# Altium integrated library TI Power Management Linear Regulator Dual Channel LDO.IntLib: 299 symbols (part 13 of 15)
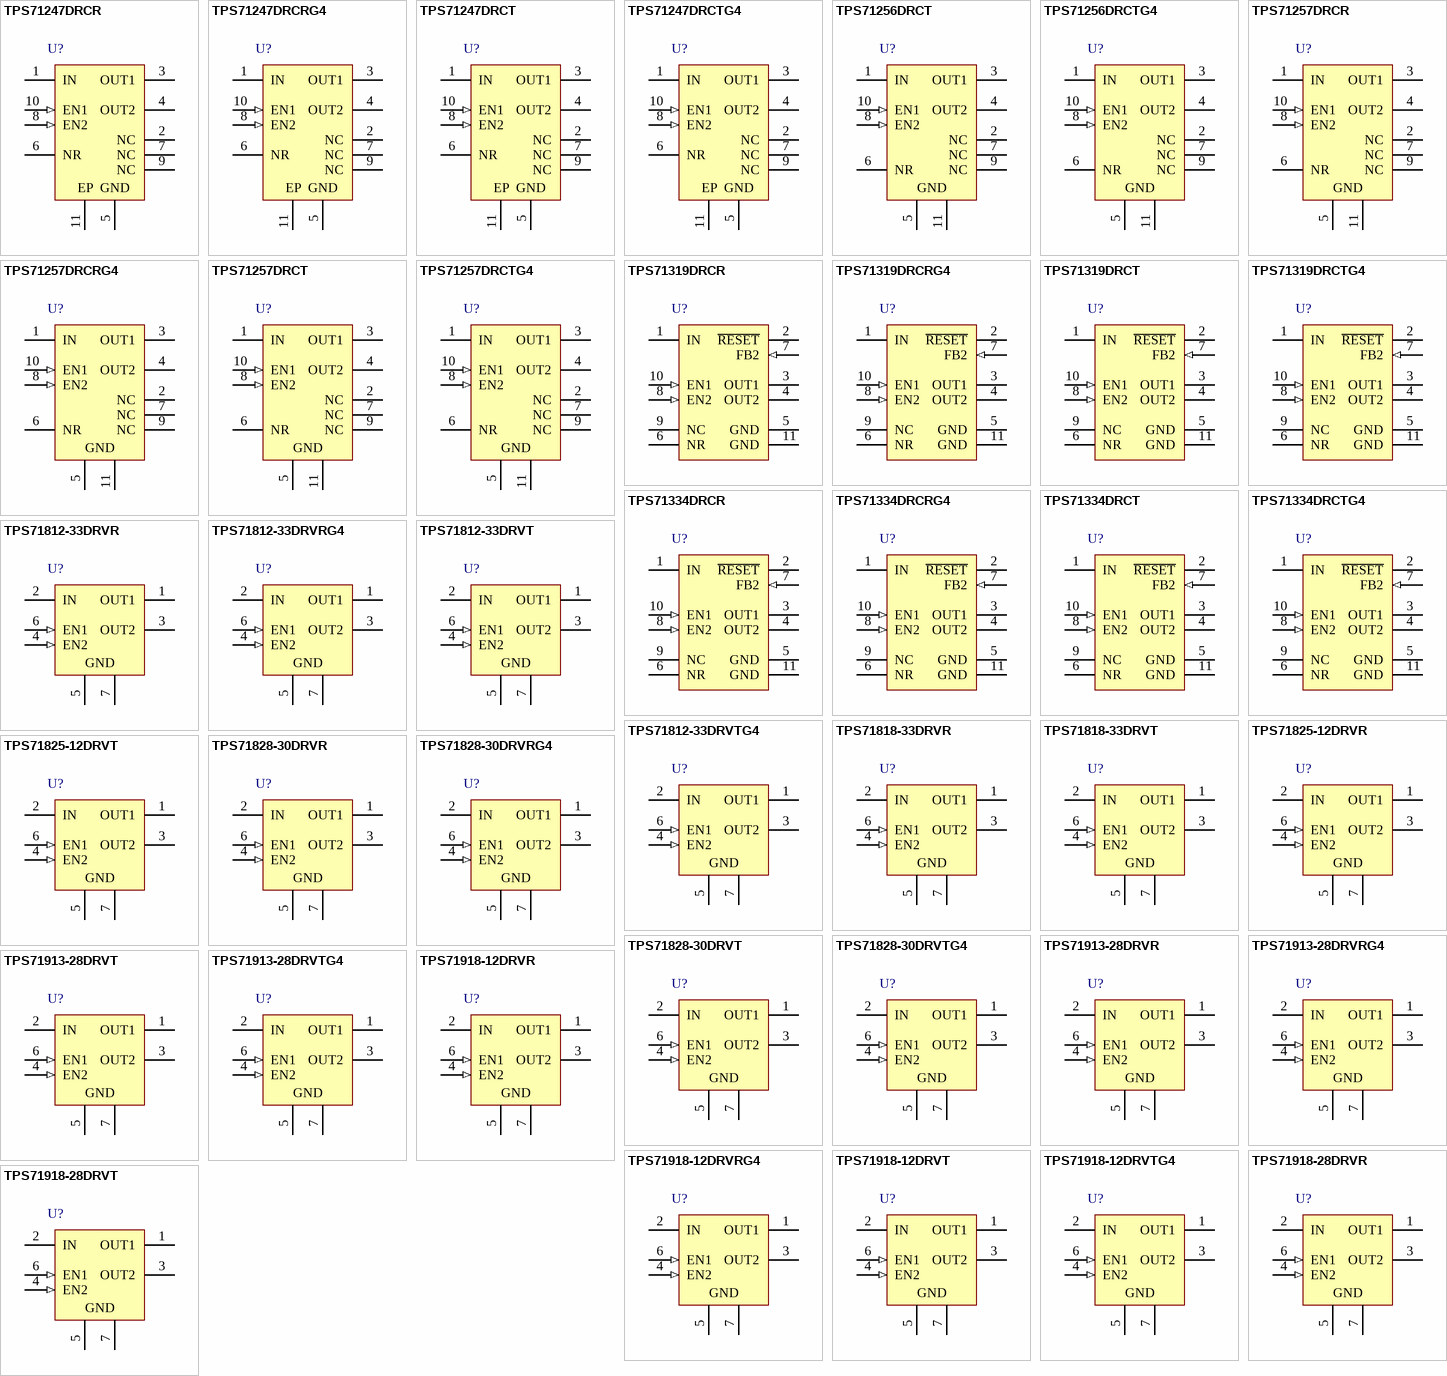
[diagram p23: symbols TPS71247DRCR to TPS71918-28DRVT]

## TPS71319DRCT
designator U?
Dual Output High PSRR LDO, 200 mA, Fixed 1.8 V Output, 2.7 to 5.5 V Input, with Integrated SVS, 10-pin SON (DRC), -40 to 125 degC, Green (RoHS & no Sb/Br); Manufacturer: Texas Instruments; PartNumber: TPS71319DRCT; Fixed Output Options(V): 1.8; Iout(Max)(A): 0.2; Iq(Typ)(mA): 0.3; SubFamily: Dual Channel LDO; Vdo(Typ)(mV): 125; Vin(Max)(V): 5.5; Vin(Min)(V): 2.7; Vout2(Min)(V): 1.5; DatasheetVersion: SBVS055A; PackageVersion: 4204102-3/L; PackageReference: DRC10-2400X1650TP; PackageDescription: 10-Pin Plastic Small Outline, Body 3 x 3 mm, Pitch 0.5 mm; Supplier 1: Digi-Key; Supplier Part Number 1: 296-17739-2-ND; Supplier 2: Digi-Key; Supplier Part Number 2: 296-17739-1-ND; Supplier 3: Digi-Key; Supplier Part Number 3: 296-17739-6-ND; Supplier 4: Newark; Supplier Part Number 4: 08K4968; Supplier 5: Mouser; Supplier Part Number 5: 595-TPS71319DRCT; Eco-Plan: Green (RoHS & no Sb/Br); Iout2(A): 0.2; Vout(Max)(V): 1.8; Vout(Min)(V): 1.8; Vout2(Max)(V): 5.5; Mounting Technology: Surface Mount; ComponentLink1Description: Manufacturer URL; ComponentLink1URL: http://www.ti.com/; ComponentLink2Description: Datasheet; ComponentLink2URL: http://www.ti.com/general/docs/lit/getliterature.tsp?genericPartNumber=TPS71319&fileType=pdf; ComponentLink3Description: Package Specification; ComponentLink3URL: http://www.ti.com/litv/pdf/mpds117k
footprint TI-DRC10-2400X1650TP_V (SON, 10-Leads, Body 3x3mm, Pitch 0.5mm, Thermal Pad 3x1.65mm)
pins: 1 IN (power) "Unregulated input supply. A 0.1 uF capacitor should be connected from IN to GND.", 2 ~{RESET} (oc) "Open-drain reset ouput; monitors OUT2.A 10 k ohm to 1Mohm pull-up resistor is suitable for most applications.The open-drain R\E\S\E\T\  pull-up voltage should not exceed VDD + 0.3 V", 3 OUT1 (power) "Output of the regulator. A small 2.2 uF ceramic capacitor is required from this pin to ground to assure stability.", 4 OUT2 (power) "Same as OUT1 but for LDO2.", 5 GND (power) "Ground", 6 NR "Noise reduction pin; connect an external bypass capacitor to reduce LDO output noise.", 7 FB2 (in) "Feedback for CH2 adjustable version;", 8 EN2 (in) "Same as EN1 but controls LDO2.", 9 NC "No connection.", 10 EN1 (in) "Driving the enable pin (EN) high turns on LDO1.Driving this pin low puts LDO1 into shutdown mode,reducing operating current. The enable pin should be connected to IN if not used.", 11 GND (power) "Ground"

## TPS71319DRCTG4
designator U?
Dual Output High PSRR LDO, 200 mA, Fixed 1.8 V Output, 2.7 to 5.5 V Input, with Integrated SVS, 10-pin SON (DRC), -40 to 125 degC, Green (RoHS & no Sb/Br); Manufacturer: Texas Instruments; PartNumber: TPS71319DRCTG4; Fixed Output Options(V): 1.8; Iout(Max)(A): 0.2; Iq(Typ)(mA): 0.3; SubFamily: Dual Channel LDO; Vdo(Typ)(mV): 125; Vin(Max)(V): 5.5; Vin(Min)(V): 2.7; Vout2(Min)(V): 1.5; DatasheetVersion: SBVS055A; PackageVersion: 4204102-3/L; PackageReference: DRC10-2400X1650TP; PackageDescription: 10-Pin Plastic Small Outline, Body 3 x 3 mm, Pitch 0.5 mm; Supplier 1: Digi-Key; Supplier Part Number 1: TPS71319DRCTG4-ND; Supplier 2: Newark; Supplier Part Number 2: 24K6075; Supplier 3: Mouser; Supplier Part Number 3: 595-TPS71319DRCTG4; Eco-Plan: Green (RoHS & no Sb/Br); Iout2(A): 0.2; Vout(Max)(V): 1.8; Vout(Min)(V): 1.8; Vout2(Max)(V): 5.5; Mounting Technology: Surface Mount; ComponentLink1Description: Manufacturer URL; ComponentLink1URL: http://www.ti.com/; ComponentLink2Description: Datasheet; ComponentLink2URL: http://www.ti.com/general/docs/lit/getliterature.tsp?genericPartNumber=TPS71319&fileType=pdf; ComponentLink3Description: Package Specification; ComponentLink3URL: http://www.ti.com/litv/pdf/mpds117k
footprint TI-DRC10-2400X1650TP_V (SON, 10-Leads, Body 3x3mm, Pitch 0.5mm, Thermal Pad 3x1.65mm)
pins: 1 IN (power) "Unregulated input supply. A 0.1 uF capacitor should be connected from IN to GND.", 2 ~{RESET} (oc) "Open-drain reset ouput; monitors OUT2.A 10 k ohm to 1Mohm pull-up resistor is suitable for most applications.The open-drain R\E\S\E\T\  pull-up voltage should not exceed VDD + 0.3 V", 3 OUT1 (power) "Output of the regulator. A small 2.2 uF ceramic capacitor is required from this pin to ground to assure stability.", 4 OUT2 (power) "Same as OUT1 but for LDO2.", 5 GND (power) "Ground", 6 NR "Noise reduction pin; connect an external bypass capacitor to reduce LDO output noise.", 7 FB2 (in) "Feedback for CH2 adjustable version;", 8 EN2 (in) "Same as EN1 but controls LDO2.", 9 NC "No connection.", 10 EN1 (in) "Driving the enable pin (EN) high turns on LDO1.Driving this pin low puts LDO1 into shutdown mode,reducing operating current. The enable pin should be connected to IN if not used.", 11 GND (power) "Ground"

## TPS71334DRCR
designator U?
Dual Output High PSRR LDO, 200 mA, Fixed 1.8 V Output, 2.7 to 5.5 V Input, with Integrated SVS, 10-pin SON (DRC), -40 to 125 degC, Green (RoHS & no Sb/Br); Manufacturer: Texas Instruments; PartNumber: TPS71334DRCR; Fixed Output Options(V): 1.8; Iout(Max)(A): 0.2; Iq(Typ)(mA): 0.3; SubFamily: Dual Channel LDO; Vdo(Typ)(mV): 125; Vin(Max)(V): 5.5; Vin(Min)(V): 2.7; Vout(Max)(V): 3.3; Vout2(Min)(V): 1.5; DatasheetVersion: SBVS055A; PackageVersion: 4204102-3/L; PackageReference: DRC10-2400X1650TP; PackageDescription: 10-Pin Plastic Small Outline, Body 3 x 3 mm, Pitch 0.5 mm; Supplier 1: Digi-Key; Supplier Part Number 1: TPS71334DRCR-ND; Supplier 2: Mouser; Supplier Part Number 2: 595-TPS71334DRCR; Eco-Plan: Green (RoHS & no Sb/Br); Iout2(A): 0.2; Vout(Min)(V): 3.3; Vout2(Max)(V): 5.5; Mounting Technology: Surface Mount; ComponentLink1Description: Manufacturer URL; ComponentLink1URL: http://www.ti.com/; ComponentLink2Description: Datasheet; ComponentLink2URL: http://www.ti.com/general/docs/lit/getliterature.tsp?genericPartNumber=TPS71334&fileType=pdf; ComponentLink3Description: Package Specification; ComponentLink3URL: http://www.ti.com/litv/pdf/mpds117k
footprint TI-DRC10-2400X1650TP_V (SON, 10-Leads, Body 3x3mm, Pitch 0.5mm, Thermal Pad 3x1.65mm)
pins: 1 IN (power) "Unregulated input supply. A 0.1 uF capacitor should be connected from IN to GND.", 2 ~{RESET} (oc) "Open-drain reset ouput; monitors OUT2.A 10 k ohm to 1Mohm pull-up resistor is suitable for most applications.The open-drain R\E\S\E\T\  pull-up voltage should not exceed VDD + 0.3 V", 3 OUT1 (power) "Output of the regulator. A small 2.2 uF ceramic capacitor is required from this pin to ground to assure stability.", 4 OUT2 (power) "Same as OUT1 but for LDO2.", 5 GND (power) "Ground", 6 NR "Noise reduction pin; connect an external bypass capacitor to reduce LDO output noise.", 7 FB2 (in) "Feedback for CH2 adjustable version;", 8 EN2 (in) "Same as EN1 but controls LDO2.", 9 NC "No connection.", 10 EN1 (in) "Driving the enable pin (EN) high turns on LDO1.Driving this pin low puts LDO1 into shutdown mode,reducing operating current. The enable pin should be connected to IN if not used.", 11 GND (power) "Ground"

## TPS71334DRCRG4
designator U?
Dual Output High PSRR LDO, 200 mA, Fixed 1.8 V Output, 2.7 to 5.5 V Input, with Integrated SVS, 10-pin SON (DRC), -40 to 125 degC, Green (RoHS & no Sb/Br); Manufacturer: Texas Instruments; PartNumber: TPS71334DRCRG4; Fixed Output Options(V): 1.8; Iout(Max)(A): 0.2; Iq(Typ)(mA): 0.3; SubFamily: Dual Channel LDO; Vdo(Typ)(mV): 125; Vin(Max)(V): 5.5; Vin(Min)(V): 2.7; Vout(Max)(V): 3.3; Vout2(Min)(V): 1.5; DatasheetVersion: SBVS055A; PackageVersion: 4204102-3/L; PackageReference: DRC10-2400X1650TP; PackageDescription: 10-Pin Plastic Small Outline, Body 3 x 3 mm, Pitch 0.5 mm; Supplier 1: Digi-Key; Supplier Part Number 1: TPS71334DRCRG4-ND; Supplier 2: Mouser; Supplier Part Number 2: 595-TPS71334DRCRG4; Eco-Plan: Green (RoHS & no Sb/Br); Iout2(A): 0.2; Vout(Min)(V): 3.3; Vout2(Max)(V): 5.5; Mounting Technology: Surface Mount; ComponentLink1Description: Manufacturer URL; ComponentLink1URL: http://www.ti.com/; ComponentLink2Description: Datasheet; ComponentLink2URL: http://www.ti.com/general/docs/lit/getliterature.tsp?genericPartNumber=TPS71334&fileType=pdf; ComponentLink3Description: Package Specification; ComponentLink3URL: http://www.ti.com/litv/pdf/mpds117k
footprint TI-DRC10-2400X1650TP_V (SON, 10-Leads, Body 3x3mm, Pitch 0.5mm, Thermal Pad 3x1.65mm)
pins: 1 IN (power) "Unregulated input supply. A 0.1 uF capacitor should be connected from IN to GND.", 2 ~{RESET} (oc) "Open-drain reset ouput; monitors OUT2.A 10 k ohm to 1Mohm pull-up resistor is suitable for most applications.The open-drain R\E\S\E\T\  pull-up voltage should not exceed VDD + 0.3 V", 3 OUT1 (power) "Output of the regulator. A small 2.2 uF ceramic capacitor is required from this pin to ground to assure stability.", 4 OUT2 (power) "Same as OUT1 but for LDO2.", 5 GND (power) "Ground", 6 NR "Noise reduction pin; connect an external bypass capacitor to reduce LDO output noise.", 7 FB2 (in) "Feedback for CH2 adjustable version;", 8 EN2 (in) "Same as EN1 but controls LDO2.", 9 NC "No connection.", 10 EN1 (in) "Driving the enable pin (EN) high turns on LDO1.Driving this pin low puts LDO1 into shutdown mode,reducing operating current. The enable pin should be connected to IN if not used.", 11 GND (power) "Ground"

## TPS71334DRCT
designator U?
Dual Output High PSRR LDO, 200 mA, Fixed 1.8 V Output, 2.7 to 5.5 V Input, with Integrated SVS, 10-pin SON (DRC), -40 to 125 degC, Green (RoHS & no Sb/Br); Manufacturer: Texas Instruments; PartNumber: TPS71334DRCT; Fixed Output Options(V): 1.8; Iout(Max)(A): 0.2; Iq(Typ)(mA): 0.3; SubFamily: Dual Channel LDO; Vdo(Typ)(mV): 125; Vin(Max)(V): 5.5; Vin(Min)(V): 2.7; Vout(Max)(V): 3.3; Vout2(Min)(V): 1.5; DatasheetVersion: SBVS055A; PackageVersion: 4204102-3/L; PackageReference: DRC10-2400X1650TP; PackageDescription: 10-Pin Plastic Small Outline, Body 3 x 3 mm, Pitch 0.5 mm; Supplier 1: Digi-Key; Supplier Part Number 1: 296-17701-2-ND; Supplier 2: Digi-Key; Supplier Part Number 2: 296-17701-1-ND; Supplier 3: Digi-Key; Supplier Part Number 3: 296-17701-6-ND; Supplier 4: Newark; Supplier Part Number 4: 73J8401; Supplier 5: Mouser; Supplier Part Number 5: 595-TPS71334DRCT; Eco-Plan: Green (RoHS & no Sb/Br); Iout2(A): 0.2; Vout(Min)(V): 3.3; Vout2(Max)(V): 5.5; Mounting Technology: Surface Mount; ComponentLink1Description: Manufacturer URL; ComponentLink1URL: http://www.ti.com/; ComponentLink2Description: Datasheet; ComponentLink2URL: http://www.ti.com/general/docs/lit/getliterature.tsp?genericPartNumber=TPS71334&fileType=pdf; ComponentLink3Description: Package Specification; ComponentLink3URL: http://www.ti.com/litv/pdf/mpds117k
footprint TI-DRC10-2400X1650TP_V (SON, 10-Leads, Body 3x3mm, Pitch 0.5mm, Thermal Pad 3x1.65mm)
pins: 1 IN (power) "Unregulated input supply. A 0.1 uF capacitor should be connected from IN to GND.", 2 ~{RESET} (oc) "Open-drain reset ouput; monitors OUT2.A 10 k ohm to 1Mohm pull-up resistor is suitable for most applications.The open-drain R\E\S\E\T\  pull-up voltage should not exceed VDD + 0.3 V", 3 OUT1 (power) "Output of the regulator. A small 2.2 uF ceramic capacitor is required from this pin to ground to assure stability.", 4 OUT2 (power) "Same as OUT1 but for LDO2.", 5 GND (power) "Ground", 6 NR "Noise reduction pin; connect an external bypass capacitor to reduce LDO output noise.", 7 FB2 (in) "Feedback for CH2 adjustable version;", 8 EN2 (in) "Same as EN1 but controls LDO2.", 9 NC "No connection.", 10 EN1 (in) "Driving the enable pin (EN) high turns on LDO1.Driving this pin low puts LDO1 into shutdown mode,reducing operating current. The enable pin should be connected to IN if not used.", 11 GND (power) "Ground"

## TPS71334DRCTG4
designator U?
Dual Output High PSRR LDO, 200 mA, Fixed 1.8 V Output, 2.7 to 5.5 V Input, with Integrated SVS, 10-pin SON (DRC), -40 to 125 degC, Green (RoHS & no Sb/Br); Manufacturer: Texas Instruments; PartNumber: TPS71334DRCTG4; Fixed Output Options(V): 1.8; Iout(Max)(A): 0.2; Iq(Typ)(mA): 0.3; SubFamily: Dual Channel LDO; Vdo(Typ)(mV): 125; Vin(Max)(V): 5.5; Vin(Min)(V): 2.7; Vout(Max)(V): 3.3; Vout2(Min)(V): 1.5; DatasheetVersion: SBVS055A; PackageVersion: 4204102-3/L; PackageReference: DRC10-2400X1650TP; PackageDescription: 10-Pin Plastic Small Outline, Body 3 x 3 mm, Pitch 0.5 mm; Supplier 1: Digi-Key; Supplier Part Number 1: 296-28009-2-ND; Supplier 2: Digi-Key; Supplier Part Number 2: 296-28009-1-ND; Supplier 3: Digi-Key; Supplier Part Number 3: 296-28009-6-ND; Supplier 4: Newark; Supplier Part Number 4: 24K6077; Supplier 5: Mouser; Supplier Part Number 5: 595-TPS71334DRCTG4; Eco-Plan: Green (RoHS & no Sb/Br); Iout2(A): 0.2; Vout(Min)(V): 3.3; Vout2(Max)(V): 5.5; Mounting Technology: Surface Mount; ComponentLink1Description: Manufacturer URL; ComponentLink1URL: http://www.ti.com/; ComponentLink2Description: Datasheet; ComponentLink2URL: http://www.ti.com/general/docs/lit/getliterature.tsp?genericPartNumber=TPS71334&fileType=pdf; ComponentLink3Description: Package Specification; ComponentLink3URL: http://www.ti.com/litv/pdf/mpds117k
footprint TI-DRC10-2400X1650TP_V (SON, 10-Leads, Body 3x3mm, Pitch 0.5mm, Thermal Pad 3x1.65mm)
pins: 1 IN (power) "Unregulated input supply. A 0.1 uF capacitor should be connected from IN to GND.", 2 ~{RESET} (oc) "Open-drain reset ouput; monitors OUT2.A 10 k ohm to 1Mohm pull-up resistor is suitable for most applications.The open-drain R\E\S\E\T\  pull-up voltage should not exceed VDD + 0.3 V", 3 OUT1 (power) "Output of the regulator. A small 2.2 uF ceramic capacitor is required from this pin to ground to assure stability.", 4 OUT2 (power) "Same as OUT1 but for LDO2.", 5 GND (power) "Ground", 6 NR "Noise reduction pin; connect an external bypass capacitor to reduce LDO output noise.", 7 FB2 (in) "Feedback for CH2 adjustable version;", 8 EN2 (in) "Same as EN1 but controls LDO2.", 9 NC "No connection.", 10 EN1 (in) "Driving the enable pin (EN) high turns on LDO1.Driving this pin low puts LDO1 into shutdown mode,reducing operating current. The enable pin should be connected to IN if not used.", 11 GND (power) "Ground"

## TPS71812-33DRVR
designator U?
Dual Output High PSRR LDO, 200 mA, Fixed 1.2, 3.3 V Output, 2.7 to 6.5 V Input, 6-pin SON (DRV), -40 to 125 degC, Green (RoHS & no Sb/Br); Manufacturer: Texas Instruments; PartNumber: TPS71812-33DRVR; Iout(Max)(A): 0.2; Iq(Typ)(mA): 0.09; SubFamily: Dual Channel LDO; Vdo(Typ)(mV): 230; Vin(Max)(V): 6.5; Vin(Min)(V): 2.7; DatasheetVersion: SBVS088C; PackageVersion: 4206925/E; PackageReference: DRV6-1600X1000TP; PackageDescription: 6-Pin Plastic Small Outline No-Lead, Body 2 x 2 mm, Pitch 0.65 mm; Supplier 1: Digi-Key; Supplier Part Number 1: 296-22009-2-ND; Supplier 2: Digi-Key; Supplier Part Number 2: 296-22009-1-ND; Supplier 3: Digi-Key; Supplier Part Number 3: 296-22009-6-ND; Supplier 4: Newark; Supplier Part Number 4: 53M4007; Supplier 5: Mouser; Supplier Part Number 5: 595-TPS71812-33DRVR; Eco-Plan: Green (RoHS & no Sb/Br); Fixed Output Options(V): 1.2, 3.3; Iout2(A): 0.2; Mounting Technology: Surface Mount; ComponentLink1Description: Manufacturer URL; ComponentLink1URL: http://www.ti.com/; ComponentLink2Description: Datasheet; ComponentLink2URL: http://www.ti.com/general/docs/lit/getliterature.tsp?genericPartNumber=TPS71812-33&fileType=pdf; ComponentLink3Description: Package Specification; ComponentLink3URL: http://www.ti.com/litv/pdf/mpds216d
footprint TI-DRV6-1600X1000TP_V (SON, 6-Leads, Body 2x2mm, Pitch 0.65mm, Thermal Pad 1X1.6mm)
pins: 1 OUT1 (power) "Output of Regulator 1. A small ceramic capacitor (typically >= 1uF) is needed from this pin to ground to assure stability.", 2 IN (power) "Input supply to both regulators.", 3 OUT2 (power) "Output of Regulator 2. A small ceramic capacitor (typically >= 1uF) is needed from this pin to ground to assure stability.", 4 EN2 (in) "Enable pin for Regulator 2. Driving the Enable pin (EN2) high turns on Regulator 2. Driving this pin low puts Regulator 2 into shutdown mode, reducing operating current.", 5 GND (power) "Ground.", 6 EN1 (in) "Enable pin for Regulator 1. Driving the Enable pin (EN1) high turns on Regulator 1. Driving this pin low puts Regulator 1 into shutdown mode, reducing operating current.", 7 GND (power) "DRV thermal pad should also be connected to ground."

## TPS71812-33DRVRG4
designator U?
Dual Output High PSRR LDO, 200 mA, Fixed 1.2, 3.3 V Output, 2.7 to 6.5 V Input, 6-pin SON (DRV), -40 to 125 degC, Green (RoHS & no Sb/Br); Manufacturer: Texas Instruments; PartNumber: TPS71812-33DRVRG4; Iout(Max)(A): 0.2; Iq(Typ)(mA): 0.09; SubFamily: Dual Channel LDO; Vdo(Typ)(mV): 230; Vin(Max)(V): 6.5; Vin(Min)(V): 2.7; DatasheetVersion: SBVS088C; PackageVersion: 4206925/E; PackageReference: DRV6-1600X1000TP; PackageDescription: 6-Pin Plastic Small Outline No-Lead, Body 2 x 2 mm, Pitch 0.65 mm; Supplier 1: Digi-Key; Supplier Part Number 1: TPS71812-33DRVRG4-ND; Supplier 2: Newark; Supplier Part Number 2: 53M4008; Supplier 3: Mouser; Supplier Part Number 3: 595-TPS7181233DRVRG4; Eco-Plan: Green (RoHS & no Sb/Br); Fixed Output Options(V): 1.2, 3.3; Iout2(A): 0.2; Mounting Technology: Surface Mount; ComponentLink1Description: Manufacturer URL; ComponentLink1URL: http://www.ti.com/; ComponentLink2Description: Datasheet; ComponentLink2URL: http://www.ti.com/general/docs/lit/getliterature.tsp?genericPartNumber=TPS71812-33&fileType=pdf; ComponentLink3Description: Package Specification; ComponentLink3URL: http://www.ti.com/litv/pdf/mpds216d
footprint TI-DRV6-1600X1000TP_V (SON, 6-Leads, Body 2x2mm, Pitch 0.65mm, Thermal Pad 1X1.6mm)
pins: 1 OUT1 (power) "Output of Regulator 1. A small ceramic capacitor (typically >= 1uF) is needed from this pin to ground to assure stability.", 2 IN (power) "Input supply to both regulators.", 3 OUT2 (power) "Output of Regulator 2. A small ceramic capacitor (typically >= 1uF) is needed from this pin to ground to assure stability.", 4 EN2 (in) "Enable pin for Regulator 2. Driving the Enable pin (EN2) high turns on Regulator 2. Driving this pin low puts Regulator 2 into shutdown mode, reducing operating current.", 5 GND (power) "Ground.", 6 EN1 (in) "Enable pin for Regulator 1. Driving the Enable pin (EN1) high turns on Regulator 1. Driving this pin low puts Regulator 1 into shutdown mode, reducing operating current.", 7 GND (power) "DRV thermal pad should also be connected to ground."

## TPS71812-33DRVT
designator U?
Dual Output High PSRR LDO, 200 mA, Fixed 1.2, 3.3 V Output, 2.7 to 6.5 V Input, 6-pin SON (DRV), -40 to 125 degC, Green (RoHS & no Sb/Br); Manufacturer: Texas Instruments; PartNumber: TPS71812-33DRVT; Iout(Max)(A): 0.2; Iq(Typ)(mA): 0.09; SubFamily: Dual Channel LDO; Vdo(Typ)(mV): 230; Vin(Max)(V): 6.5; Vin(Min)(V): 2.7; DatasheetVersion: SBVS088C; PackageVersion: 4206925/E; PackageReference: DRV6-1600X1000TP; PackageDescription: 6-Pin Plastic Small Outline No-Lead, Body 2 x 2 mm, Pitch 0.65 mm; Supplier 1: Digi-Key; Supplier Part Number 1: 296-32544-2-ND; Supplier 2: Digi-Key; Supplier Part Number 2: 296-32544-1-ND; Supplier 3: Digi-Key; Supplier Part Number 3: 296-32544-6-ND; Supplier 4: Newark; Supplier Part Number 4: 53M4009; Supplier 5: Mouser; Supplier Part Number 5: 595-TPS71812-33DRVT; Eco-Plan: Green (RoHS & no Sb/Br); Fixed Output Options(V): 1.2, 3.3; Iout2(A): 0.2; Mounting Technology: Surface Mount; ComponentLink1Description: Manufacturer URL; ComponentLink1URL: http://www.ti.com/; ComponentLink2Description: Datasheet; ComponentLink2URL: http://www.ti.com/general/docs/lit/getliterature.tsp?genericPartNumber=TPS71812-33&fileType=pdf; ComponentLink3Description: Package Specification; ComponentLink3URL: http://www.ti.com/litv/pdf/mpds216d
footprint TI-DRV6-1600X1000TP_V (SON, 6-Leads, Body 2x2mm, Pitch 0.65mm, Thermal Pad 1X1.6mm)
pins: 1 OUT1 (power) "Output of Regulator 1. A small ceramic capacitor (typically >= 1uF) is needed from this pin to ground to assure stability.", 2 IN (power) "Input supply to both regulators.", 3 OUT2 (power) "Output of Regulator 2. A small ceramic capacitor (typically >= 1uF) is needed from this pin to ground to assure stability.", 4 EN2 (in) "Enable pin for Regulator 2. Driving the Enable pin (EN2) high turns on Regulator 2. Driving this pin low puts Regulator 2 into shutdown mode, reducing operating current.", 5 GND (power) "Ground.", 6 EN1 (in) "Enable pin for Regulator 1. Driving the Enable pin (EN1) high turns on Regulator 1. Driving this pin low puts Regulator 1 into shutdown mode, reducing operating current.", 7 GND (power) "DRV thermal pad should also be connected to ground."

## TPS71812-33DRVTG4
designator U?
Dual Output High PSRR LDO, 200 mA, Fixed 1.2, 3.3 V Output, 2.7 to 6.5 V Input, 6-pin SON (DRV), -40 to 125 degC, Green (RoHS & no Sb/Br); Manufacturer: Texas Instruments; PartNumber: TPS71812-33DRVTG4; Iout(Max)(A): 0.2; Iq(Typ)(mA): 0.09; SubFamily: Dual Channel LDO; Vdo(Typ)(mV): 230; Vin(Max)(V): 6.5; Vin(Min)(V): 2.7; DatasheetVersion: SBVS088C; PackageVersion: 4206925/E; PackageReference: DRV6-1600X1000TP; PackageDescription: 6-Pin Plastic Small Outline No-Lead, Body 2 x 2 mm, Pitch 0.65 mm; Supplier 1: Digi-Key; Supplier Part Number 1: TPS71812-33DRVTG4-ND; Supplier 2: Newark; Supplier Part Number 2: 53M4010; Supplier 3: Mouser; Supplier Part Number 3: 595-TPS7181233DRVTG4; Eco-Plan: Green (RoHS & no Sb/Br); Fixed Output Options(V): 1.2, 3.3; Iout2(A): 0.2; Mounting Technology: Surface Mount; ComponentLink1Description: Manufacturer URL; ComponentLink1URL: http://www.ti.com/; ComponentLink2Description: Datasheet; ComponentLink2URL: http://www.ti.com/general/docs/lit/getliterature.tsp?genericPartNumber=TPS71812-33&fileType=pdf; ComponentLink3Description: Package Specification; ComponentLink3URL: http://www.ti.com/litv/pdf/mpds216d
footprint TI-DRV6-1600X1000TP_V (SON, 6-Leads, Body 2x2mm, Pitch 0.65mm, Thermal Pad 1X1.6mm)
pins: 1 OUT1 (power) "Output of Regulator 1. A small ceramic capacitor (typically >= 1uF) is needed from this pin to ground to assure stability.", 2 IN (power) "Input supply to both regulators.", 3 OUT2 (power) "Output of Regulator 2. A small ceramic capacitor (typically >= 1uF) is needed from this pin to ground to assure stability.", 4 EN2 (in) "Enable pin for Regulator 2. Driving the Enable pin (EN2) high turns on Regulator 2. Driving this pin low puts Regulator 2 into shutdown mode, reducing operating current.", 5 GND (power) "Ground.", 6 EN1 (in) "Enable pin for Regulator 1. Driving the Enable pin (EN1) high turns on Regulator 1. Driving this pin low puts Regulator 1 into shutdown mode, reducing operating current.", 7 GND (power) "DRV thermal pad should also be connected to ground."

## TPS71818-33DRVR
designator U?
Dual Output High PSRR LDO, 200 mA, Fixed 1.8, 3.3 V Output, 2.7 to 6.5 V Input, 6-pin SON (DRV), -40 to 125 degC, Green (RoHS & no Sb/Br); Manufacturer: Texas Instruments; PartNumber: TPS71818-33DRVR; Iout(Max)(A): 0.2; Iq(Typ)(mA): 0.09; SubFamily: Dual Channel LDO; Vdo(Typ)(mV): 230; Vin(Max)(V): 6.5; Vin(Min)(V): 2.7; DatasheetVersion: SBVS088C; PackageVersion: 4206925/E; PackageReference: DRV6-1600X1000TP; PackageDescription: 6-Pin Plastic Small Outline No-Lead, Body 2 x 2 mm, Pitch 0.65 mm; Supplier 1: Digi-Key; Supplier Part Number 1: TPS71818-33DRVR-ND; Supplier 2: Newark; Supplier Part Number 2: 25R0135; Supplier 3: Mouser; Supplier Part Number 3: 595-TPS71818-33DRVR; Eco-Plan: Green (RoHS & no Sb/Br); Fixed Output Options(V): 1.8, 3.3; Iout2(A): 0.2; Mounting Technology: Surface Mount; ComponentLink1Description: Manufacturer URL; ComponentLink1URL: http://www.ti.com/; ComponentLink2Description: Datasheet; ComponentLink2URL: http://www.ti.com/general/docs/lit/getliterature.tsp?genericPartNumber=TPS71818-33&fileType=pdf; ComponentLink3Description: Package Specification; ComponentLink3URL: http://www.ti.com/litv/pdf/mpds216d
footprint TI-DRV6-1600X1000TP_V (SON, 6-Leads, Body 2x2mm, Pitch 0.65mm, Thermal Pad 1X1.6mm)
pins: 1 OUT1 (power) "Output of Regulator 1. A small ceramic capacitor (typically >= 1uF) is needed from this pin to ground to assure stability.", 2 IN (power) "Input supply to both regulators.", 3 OUT2 (power) "Output of Regulator 2. A small ceramic capacitor (typically >= 1uF) is needed from this pin to ground to assure stability.", 4 EN2 (in) "Enable pin for Regulator 2. Driving the Enable pin (EN2) high turns on Regulator 2. Driving this pin low puts Regulator 2 into shutdown mode, reducing operating current.", 5 GND (power) "Ground.", 6 EN1 (in) "Enable pin for Regulator 1. Driving the Enable pin (EN1) high turns on Regulator 1. Driving this pin low puts Regulator 1 into shutdown mode, reducing operating current.", 7 GND (power) "DRV thermal pad should also be connected to ground."

## TPS71818-33DRVT
designator U?
Dual Output High PSRR LDO, 200 mA, Fixed 1.8, 3.3 V Output, 2.7 to 6.5 V Input, 6-pin SON (DRV), -40 to 125 degC, Green (RoHS & no Sb/Br); Manufacturer: Texas Instruments; PartNumber: TPS71818-33DRVT; Iout(Max)(A): 0.2; Iq(Typ)(mA): 0.09; SubFamily: Dual Channel LDO; Vdo(Typ)(mV): 230; Vin(Max)(V): 6.5; Vin(Min)(V): 2.7; DatasheetVersion: SBVS088C; PackageVersion: 4206925/E; PackageReference: DRV6-1600X1000TP; PackageDescription: 6-Pin Plastic Small Outline No-Lead, Body 2 x 2 mm, Pitch 0.65 mm; Supplier 1: Digi-Key; Supplier Part Number 1: 296-24872-2-ND; Supplier 2: Digi-Key; Supplier Part Number 2: 296-24872-1-ND; Supplier 3: Digi-Key; Supplier Part Number 3: 296-24872-6-ND; Supplier 4: Newark; Supplier Part Number 4: 25R0136; Supplier 5: Mouser; Supplier Part Number 5: 595-TPS71818-33DRVT; Eco-Plan: Green (RoHS & no Sb/Br); Fixed Output Options(V): 1.8, 3.3; Iout2(A): 0.2; Mounting Technology: Surface Mount; ComponentLink1Description: Manufacturer URL; ComponentLink1URL: http://www.ti.com/; ComponentLink2Description: Datasheet; ComponentLink2URL: http://www.ti.com/general/docs/lit/getliterature.tsp?genericPartNumber=TPS71818-33&fileType=pdf; ComponentLink3Description: Package Specification; ComponentLink3URL: http://www.ti.com/litv/pdf/mpds216d
footprint TI-DRV6-1600X1000TP_V (SON, 6-Leads, Body 2x2mm, Pitch 0.65mm, Thermal Pad 1X1.6mm)
pins: 1 OUT1 (power) "Output of Regulator 1. A small ceramic capacitor (typically >= 1uF) is needed from this pin to ground to assure stability.", 2 IN (power) "Input supply to both regulators.", 3 OUT2 (power) "Output of Regulator 2. A small ceramic capacitor (typically >= 1uF) is needed from this pin to ground to assure stability.", 4 EN2 (in) "Enable pin for Regulator 2. Driving the Enable pin (EN2) high turns on Regulator 2. Driving this pin low puts Regulator 2 into shutdown mode, reducing operating current.", 5 GND (power) "Ground.", 6 EN1 (in) "Enable pin for Regulator 1. Driving the Enable pin (EN1) high turns on Regulator 1. Driving this pin low puts Regulator 1 into shutdown mode, reducing operating current.", 7 GND (power) "DRV thermal pad should also be connected to ground."

## TPS71825-12DRVR
designator U?
Dual Output High PSRR LDO, 200 mA, Fixed 2.5, 1.2 V Output, 2.7 to 6.5 V Input, 6-pin SON (DRV), -40 to 125 degC, Green (RoHS & no Sb/Br); Manufacturer: Texas Instruments; PartNumber: TPS71825-12DRVR; Iout(Max)(A): 0.2; Iq(Typ)(mA): 0.09; SubFamily: Dual Channel LDO; Vdo(Typ)(mV): 230; Vin(Max)(V): 6.5; Vin(Min)(V): 2.7; DatasheetVersion: SBVS088C; PackageVersion: 4206925/E; PackageReference: DRV6-1600X1000TP; PackageDescription: 6-Pin Plastic Small Outline No-Lead, Body 2 x 2 mm, Pitch 0.65 mm; Supplier 1: Digi-Key; Supplier Part Number 1: 296-24297-2-ND; Supplier 2: Digi-Key; Supplier Part Number 2: 296-24297-1-ND; Supplier 3: Digi-Key; Supplier Part Number 3: 296-24297-6-ND; Supplier 4: Mouser; Supplier Part Number 4: 595-TPS71825-12DRVR; Eco-Plan: Green (RoHS & no Sb/Br); Fixed Output Options(V): 2.5, 1.2; Iout2(A): 0.2; Mounting Technology: Surface Mount; ComponentLink1Description: Manufacturer URL; ComponentLink1URL: http://www.ti.com/; ComponentLink2Description: Datasheet; ComponentLink2URL: http://www.ti.com/general/docs/lit/getliterature.tsp?genericPartNumber=TPS71825-12&fileType=pdf; ComponentLink3Description: Package Specification; ComponentLink3URL: http://www.ti.com/litv/pdf/mpds216d
footprint TI-DRV6-1600X1000TP_V (SON, 6-Leads, Body 2x2mm, Pitch 0.65mm, Thermal Pad 1X1.6mm)
pins: 1 OUT1 (power) "Output of Regulator 1. A small ceramic capacitor (typically >= 1uF) is needed from this pin to ground to assure stability.", 2 IN (power) "Input supply to both regulators.", 3 OUT2 (power) "Output of Regulator 2. A small ceramic capacitor (typically >= 1uF) is needed from this pin to ground to assure stability.", 4 EN2 (in) "Enable pin for Regulator 2. Driving the Enable pin (EN2) high turns on Regulator 2. Driving this pin low puts Regulator 2 into shutdown mode, reducing operating current.", 5 GND (power) "Ground.", 6 EN1 (in) "Enable pin for Regulator 1. Driving the Enable pin (EN1) high turns on Regulator 1. Driving this pin low puts Regulator 1 into shutdown mode, reducing operating current.", 7 GND (power) "DRV thermal pad should also be connected to ground."

## TPS71825-12DRVT
designator U?
Dual Output High PSRR LDO, 200 mA, Fixed 2.5, 1.2 V Output, 2.7 to 6.5 V Input, 6-pin SON (DRV), -40 to 125 degC, Green (RoHS & no Sb/Br); Manufacturer: Texas Instruments; PartNumber: TPS71825-12DRVT; Iout(Max)(A): 0.2; Iq(Typ)(mA): 0.09; SubFamily: Dual Channel LDO; Vdo(Typ)(mV): 230; Vin(Max)(V): 6.5; Vin(Min)(V): 2.7; DatasheetVersion: SBVS088C; PackageVersion: 4206925/E; PackageReference: DRV6-1600X1000TP; PackageDescription: 6-Pin Plastic Small Outline No-Lead, Body 2 x 2 mm, Pitch 0.65 mm; Supplier 1: Digi-Key; Supplier Part Number 1: 296-24393-2-ND; Supplier 2: Digi-Key; Supplier Part Number 2: 296-24393-1-ND; Supplier 3: Digi-Key; Supplier Part Number 3: 296-24393-6-ND; Supplier 4: Farnell; Supplier Part Number 4: 1735602RL; Supplier 5: Newark; Supplier Part Number 5: 05R8707; Supplier 6: Mouser; Supplier Part Number 6: 595-TPS71825-12DRVT; Eco-Plan: Green (RoHS & no Sb/Br); Fixed Output Options(V): 2.5, 1.2; Iout2(A): 0.2; Mounting Technology: Surface Mount; ComponentLink1Description: Manufacturer URL; ComponentLink1URL: http://www.ti.com/; ComponentLink2Description: Datasheet; ComponentLink2URL: http://www.ti.com/general/docs/lit/getliterature.tsp?genericPartNumber=TPS71825-12&fileType=pdf; ComponentLink3Description: Package Specification; ComponentLink3URL: http://www.ti.com/litv/pdf/mpds216d
footprint TI-DRV6-1600X1000TP_V (SON, 6-Leads, Body 2x2mm, Pitch 0.65mm, Thermal Pad 1X1.6mm)
pins: 1 OUT1 (power) "Output of Regulator 1. A small ceramic capacitor (typically >= 1uF) is needed from this pin to ground to assure stability.", 2 IN (power) "Input supply to both regulators.", 3 OUT2 (power) "Output of Regulator 2. A small ceramic capacitor (typically >= 1uF) is needed from this pin to ground to assure stability.", 4 EN2 (in) "Enable pin for Regulator 2. Driving the Enable pin (EN2) high turns on Regulator 2. Driving this pin low puts Regulator 2 into shutdown mode, reducing operating current.", 5 GND (power) "Ground.", 6 EN1 (in) "Enable pin for Regulator 1. Driving the Enable pin (EN1) high turns on Regulator 1. Driving this pin low puts Regulator 1 into shutdown mode, reducing operating current.", 7 GND (power) "DRV thermal pad should also be connected to ground."

## TPS71828-30DRVR
designator U?
Dual Output High PSRR LDO, 200 mA, Fixed 2.8, 3 V Output, 2.7 to 6.5 V Input, 6-pin SON (DRV), -40 to 125 degC, Green (RoHS & no Sb/Br); Manufacturer: Texas Instruments; PartNumber: TPS71828-30DRVR; Fixed Output Options(V): 2.8, 3; Iout(Max)(A): 0.2; Iq(Typ)(mA): 0.09; SubFamily: Dual Channel LDO; Vdo(Typ)(mV): 230; Vin(Max)(V): 6.5; Vin(Min)(V): 2.7; DatasheetVersion: SBVS088C; PackageVersion: 4206925/E; PackageReference: DRV6-1600X1000TP; PackageDescription: 6-Pin Plastic Small Outline No-Lead, Body 2 x 2 mm, Pitch 0.65 mm; Supplier 1: Digi-Key; Supplier Part Number 1: 296-22482-2-ND; Supplier 2: Digi-Key; Supplier Part Number 2: 296-22482-1-ND; Supplier 3: Digi-Key; Supplier Part Number 3: 296-22482-6-ND; Supplier 4: Newark; Supplier Part Number 4: 50M9150; Supplier 5: Mouser; Supplier Part Number 5: 595-TPS71828-30DRVR; Eco-Plan: Green (RoHS & no Sb/Br); Iout2(A): 0.2; Mounting Technology: Surface Mount; ComponentLink1Description: Manufacturer URL; ComponentLink1URL: http://www.ti.com/; ComponentLink2Description: Datasheet; ComponentLink2URL: http://www.ti.com/general/docs/lit/getliterature.tsp?genericPartNumber=TPS71828-30&fileType=pdf; ComponentLink3Description: Package Specification; ComponentLink3URL: http://www.ti.com/litv/pdf/mpds216d
footprint TI-DRV6-1600X1000TP_V (SON, 6-Leads, Body 2x2mm, Pitch 0.65mm, Thermal Pad 1X1.6mm)
pins: 1 OUT1 (power) "Output of Regulator 1. A small ceramic capacitor (typically >= 1uF) is needed from this pin to ground to assure stability.", 2 IN (power) "Input supply to both regulators.", 3 OUT2 (power) "Output of Regulator 2. A small ceramic capacitor (typically >= 1uF) is needed from this pin to ground to assure stability.", 4 EN2 (in) "Enable pin for Regulator 2. Driving the Enable pin (EN2) high turns on Regulator 2. Driving this pin low puts Regulator 2 into shutdown mode, reducing operating current.", 5 GND (power) "Ground.", 6 EN1 (in) "Enable pin for Regulator 1. Driving the Enable pin (EN1) high turns on Regulator 1. Driving this pin low puts Regulator 1 into shutdown mode, reducing operating current.", 7 GND (power) "DRV thermal pad should also be connected to ground."

## TPS71828-30DRVRG4
designator U?
Dual Output High PSRR LDO, 200 mA, Fixed 2.8, 3 V Output, 2.7 to 6.5 V Input, 6-pin SON (DRV), -40 to 125 degC, Green (RoHS & no Sb/Br); Manufacturer: Texas Instruments; PartNumber: TPS71828-30DRVRG4; Fixed Output Options(V): 2.8, 3; Iout(Max)(A): 0.2; Iq(Typ)(mA): 0.09; SubFamily: Dual Channel LDO; Vdo(Typ)(mV): 230; Vin(Max)(V): 6.5; Vin(Min)(V): 2.7; DatasheetVersion: SBVS088C; PackageVersion: 4206925/E; PackageReference: DRV6-1600X1000TP; PackageDescription: 6-Pin Plastic Small Outline No-Lead, Body 2 x 2 mm, Pitch 0.65 mm; Supplier 1: Digi-Key; Supplier Part Number 1: TPS71828-30DRVRG4-ND; Supplier 2: Newark; Supplier Part Number 2: 52M6157; Supplier 3: Mouser; Supplier Part Number 3: 595-TPS7182830DRVRG4; Eco-Plan: Green (RoHS & no Sb/Br); Iout2(A): 0.2; Mounting Technology: Surface Mount; ComponentLink1Description: Manufacturer URL; ComponentLink1URL: http://www.ti.com/; ComponentLink2Description: Datasheet; ComponentLink2URL: http://www.ti.com/general/docs/lit/getliterature.tsp?genericPartNumber=TPS71828-30&fileType=pdf; ComponentLink3Description: Package Specification; ComponentLink3URL: http://www.ti.com/litv/pdf/mpds216d
footprint TI-DRV6-1600X1000TP_V (SON, 6-Leads, Body 2x2mm, Pitch 0.65mm, Thermal Pad 1X1.6mm)
pins: 1 OUT1 (power) "Output of Regulator 1. A small ceramic capacitor (typically >= 1uF) is needed from this pin to ground to assure stability.", 2 IN (power) "Input supply to both regulators.", 3 OUT2 (power) "Output of Regulator 2. A small ceramic capacitor (typically >= 1uF) is needed from this pin to ground to assure stability.", 4 EN2 (in) "Enable pin for Regulator 2. Driving the Enable pin (EN2) high turns on Regulator 2. Driving this pin low puts Regulator 2 into shutdown mode, reducing operating current.", 5 GND (power) "Ground.", 6 EN1 (in) "Enable pin for Regulator 1. Driving the Enable pin (EN1) high turns on Regulator 1. Driving this pin low puts Regulator 1 into shutdown mode, reducing operating current.", 7 GND (power) "DRV thermal pad should also be connected to ground."

## TPS71828-30DRVT
designator U?
Dual Output High PSRR LDO, 200 mA, Fixed 2.8, 3 V Output, 2.7 to 6.5 V Input, 6-pin SON (DRV), -40 to 125 degC, Green (RoHS & no Sb/Br); Manufacturer: Texas Instruments; PartNumber: TPS71828-30DRVT; Fixed Output Options(V): 2.8, 3; Iout(Max)(A): 0.2; Iq(Typ)(mA): 0.09; SubFamily: Dual Channel LDO; Vdo(Typ)(mV): 230; Vin(Max)(V): 6.5; Vin(Min)(V): 2.7; DatasheetVersion: SBVS088C; PackageVersion: 4206925/E; PackageReference: DRV6-1600X1000TP; PackageDescription: 6-Pin Plastic Small Outline No-Lead, Body 2 x 2 mm, Pitch 0.65 mm; Supplier 1: Digi-Key; Supplier Part Number 1: TPS71828-30DRVT-ND; Supplier 2: Mouser; Supplier Part Number 2: 595-TPS71828-30DRVT; Eco-Plan: Green (RoHS & no Sb/Br); Iout2(A): 0.2; Mounting Technology: Surface Mount; ComponentLink1Description: Manufacturer URL; ComponentLink1URL: http://www.ti.com/; ComponentLink2Description: Datasheet; ComponentLink2URL: http://www.ti.com/general/docs/lit/getliterature.tsp?genericPartNumber=TPS71828-30&fileType=pdf; ComponentLink3Description: Package Specification; ComponentLink3URL: http://www.ti.com/litv/pdf/mpds216d
footprint TI-DRV6-1600X1000TP_V (SON, 6-Leads, Body 2x2mm, Pitch 0.65mm, Thermal Pad 1X1.6mm)
pins: 1 OUT1 (power) "Output of Regulator 1. A small ceramic capacitor (typically >= 1uF) is needed from this pin to ground to assure stability.", 2 IN (power) "Input supply to both regulators.", 3 OUT2 (power) "Output of Regulator 2. A small ceramic capacitor (typically >= 1uF) is needed from this pin to ground to assure stability.", 4 EN2 (in) "Enable pin for Regulator 2. Driving the Enable pin (EN2) high turns on Regulator 2. Driving this pin low puts Regulator 2 into shutdown mode, reducing operating current.", 5 GND (power) "Ground.", 6 EN1 (in) "Enable pin for Regulator 1. Driving the Enable pin (EN1) high turns on Regulator 1. Driving this pin low puts Regulator 1 into shutdown mode, reducing operating current.", 7 GND (power) "DRV thermal pad should also be connected to ground."

## TPS71828-30DRVTG4
designator U?
Dual Output High PSRR LDO, 200 mA, Fixed 2.8, 3 V Output, 2.7 to 6.5 V Input, 6-pin SON (DRV), -40 to 125 degC, Green (RoHS & no Sb/Br); Manufacturer: Texas Instruments; PartNumber: TPS71828-30DRVTG4; Fixed Output Options(V): 2.8, 3; Iout(Max)(A): 0.2; Iq(Typ)(mA): 0.09; SubFamily: Dual Channel LDO; Vdo(Typ)(mV): 230; Vin(Max)(V): 6.5; Vin(Min)(V): 2.7; DatasheetVersion: SBVS088C; PackageVersion: 4206925/E; PackageReference: DRV6-1600X1000TP; PackageDescription: 6-Pin Plastic Small Outline No-Lead, Body 2 x 2 mm, Pitch 0.65 mm; Supplier 1: Digi-Key; Supplier Part Number 1: TPS71828-30DRVTG4-ND; Supplier 2: Newark; Supplier Part Number 2: 52M6158; Supplier 3: Mouser; Supplier Part Number 3: 595-TPS7182830DRVTG4; Eco-Plan: Green (RoHS & no Sb/Br); Iout2(A): 0.2; Mounting Technology: Surface Mount; ComponentLink1Description: Manufacturer URL; ComponentLink1URL: http://www.ti.com/; ComponentLink2Description: Datasheet; ComponentLink2URL: http://www.ti.com/general/docs/lit/getliterature.tsp?genericPartNumber=TPS71828-30&fileType=pdf; ComponentLink3Description: Package Specification; ComponentLink3URL: http://www.ti.com/litv/pdf/mpds216d
footprint TI-DRV6-1600X1000TP_V (SON, 6-Leads, Body 2x2mm, Pitch 0.65mm, Thermal Pad 1X1.6mm)
pins: 1 OUT1 (power) "Output of Regulator 1. A small ceramic capacitor (typically >= 1uF) is needed from this pin to ground to assure stability.", 2 IN (power) "Input supply to both regulators.", 3 OUT2 (power) "Output of Regulator 2. A small ceramic capacitor (typically >= 1uF) is needed from this pin to ground to assure stability.", 4 EN2 (in) "Enable pin for Regulator 2. Driving the Enable pin (EN2) high turns on Regulator 2. Driving this pin low puts Regulator 2 into shutdown mode, reducing operating current.", 5 GND (power) "Ground.", 6 EN1 (in) "Enable pin for Regulator 1. Driving the Enable pin (EN1) high turns on Regulator 1. Driving this pin low puts Regulator 1 into shutdown mode, reducing operating current.", 7 GND (power) "DRV thermal pad should also be connected to ground."

## TPS71913-28DRVR
designator U?
Dual Output High PSRR LDO, 200 mA, Fixed 1.3, 2.8 V Output, 2.7 to 6.5 V Input, 6-pin SON (DRV), -40 to 125 degC, Green (RoHS & no Sb/Br); Manufacturer: Texas Instruments; PartNumber: TPS71913-28DRVR; Iout(Max)(A): 0.2; Iq(Typ)(mA): 0.09; SubFamily: Dual Channel LDO; Vdo(Typ)(mV): 230; Vin(Max)(V): 6.5; Vin(Min)(V): 2.7; Vout(Max)(V): 3.6; Vout(Min)(V): 0.9; DatasheetVersion: SBVS088C; PackageVersion: 4206925/E; PackageReference: DRV6-1600X1000TP; PackageDescription: 6-Pin Plastic Small Outline No-Lead, Body 2 x 2 mm, Pitch 0.65 mm; Supplier 1: Digi-Key; Supplier Part Number 1: 296-22483-2-ND; Supplier 2: Digi-Key; Supplier Part Number 2: 296-22483-1-ND; Supplier 3: Digi-Key; Supplier Part Number 3: 296-22483-6-ND; Supplier 4: Mouser; Supplier Part Number 4: 595-TPS71913-28DRVR; Eco-Plan: Green (RoHS & no Sb/Br); Fixed Output Options(V): 1.3, 2.8; Iout2(A): 0.2; Vout2(Max)(V): 3.6; Vout2(Min)(V): 0.9; Mounting Technology: Surface Mount; ComponentLink1Description: Manufacturer URL; ComponentLink1URL: http://www.ti.com/; ComponentLink2Description: Datasheet; ComponentLink2URL: http://www.ti.com/general/docs/lit/getliterature.tsp?genericPartNumber=TPS71913-28&fileType=pdf; ComponentLink3Description: Package Specification; ComponentLink3URL: http://www.ti.com/litv/pdf/mpds216d
footprint TI-DRV6-1600X1000TP_V (SON, 6-Leads, Body 2x2mm, Pitch 0.65mm, Thermal Pad 1X1.6mm)
pins: 1 OUT1 (power) "Output of Regulator 1. A small ceramic capacitor (typically >= 1uF) is needed from this pin to ground to assure stability.", 2 IN (power) "Input supply to both regulators.", 3 OUT2 (power) "Output of Regulator 2. A small ceramic capacitor (typically >= 1uF) is needed from this pin to ground to assure stability.", 4 EN2 (in) "Enable pin for Regulator 2. Driving the Enable pin (EN2) high turns on Regulator 2. Driving this pin low puts Regulator 2 into shutdown mode, reducing operating current.", 5 GND (power) "Ground.", 6 EN1 (in) "Enable pin for Regulator 1. Driving the Enable pin (EN1) high turns on Regulator 1. Driving this pin low puts Regulator 1 into shutdown mode, reducing operating current.", 7 GND (power) "DRV thermal pad should also be connected to ground."

## TPS71913-28DRVRG4
designator U?
Dual Output High PSRR LDO, 200 mA, Fixed 1.3, 2.8 V Output, 2.7 to 6.5 V Input, 6-pin SON (DRV), -40 to 125 degC, Green (RoHS & no Sb/Br); Manufacturer: Texas Instruments; PartNumber: TPS71913-28DRVRG4; Iout(Max)(A): 0.2; Iq(Typ)(mA): 0.09; SubFamily: Dual Channel LDO; Vdo(Typ)(mV): 230; Vin(Max)(V): 6.5; Vin(Min)(V): 2.7; Vout(Max)(V): 3.6; Vout(Min)(V): 0.9; DatasheetVersion: SBVS088C; PackageVersion: 4206925/E; PackageReference: DRV6-1600X1000TP; PackageDescription: 6-Pin Plastic Small Outline No-Lead, Body 2 x 2 mm, Pitch 0.65 mm; Supplier 1: Digi-Key; Supplier Part Number 1: TPS71913-28DRVRG4-ND; Supplier 2: Newark; Supplier Part Number 2: 52M6159; Supplier 3: Mouser; Supplier Part Number 3: 595-TPS7191328DRVRG4; Eco-Plan: Green (RoHS & no Sb/Br); Fixed Output Options(V): 1.3, 2.8; Iout2(A): 0.2; Vout2(Max)(V): 3.6; Vout2(Min)(V): 0.9; Mounting Technology: Surface Mount; ComponentLink1Description: Manufacturer URL; ComponentLink1URL: http://www.ti.com/; ComponentLink2Description: Datasheet; ComponentLink2URL: http://www.ti.com/general/docs/lit/getliterature.tsp?genericPartNumber=TPS71913-28&fileType=pdf; ComponentLink3Description: Package Specification; ComponentLink3URL: http://www.ti.com/litv/pdf/mpds216d
footprint TI-DRV6-1600X1000TP_V (SON, 6-Leads, Body 2x2mm, Pitch 0.65mm, Thermal Pad 1X1.6mm)
pins: 1 OUT1 (power) "Output of Regulator 1. A small ceramic capacitor (typically >= 1uF) is needed from this pin to ground to assure stability.", 2 IN (power) "Input supply to both regulators.", 3 OUT2 (power) "Output of Regulator 2. A small ceramic capacitor (typically >= 1uF) is needed from this pin to ground to assure stability.", 4 EN2 (in) "Enable pin for Regulator 2. Driving the Enable pin (EN2) high turns on Regulator 2. Driving this pin low puts Regulator 2 into shutdown mode, reducing operating current.", 5 GND (power) "Ground.", 6 EN1 (in) "Enable pin for Regulator 1. Driving the Enable pin (EN1) high turns on Regulator 1. Driving this pin low puts Regulator 1 into shutdown mode, reducing operating current.", 7 GND (power) "DRV thermal pad should also be connected to ground."

## TPS71913-28DRVT
designator U?
Dual Output High PSRR LDO, 200 mA, Fixed 1.3, 2.8 V Output, 2.7 to 6.5 V Input, 6-pin SON (DRV), -40 to 125 degC, Green (RoHS & no Sb/Br); Manufacturer: Texas Instruments; PartNumber: TPS71913-28DRVT; Iout(Max)(A): 0.2; Iq(Typ)(mA): 0.09; SubFamily: Dual Channel LDO; Vdo(Typ)(mV): 230; Vin(Max)(V): 6.5; Vin(Min)(V): 2.7; Vout(Max)(V): 3.6; Vout(Min)(V): 0.9; DatasheetVersion: SBVS088C; PackageVersion: 4206925/E; PackageReference: DRV6-1600X1000TP; PackageDescription: 6-Pin Plastic Small Outline No-Lead, Body 2 x 2 mm, Pitch 0.65 mm; Supplier 1: Digi-Key; Supplier Part Number 1: TPS71913-28DRVT-ND; Supplier 2: Newark; Supplier Part Number 2: 50M9153; Supplier 3: Mouser; Supplier Part Number 3: 595-TPS71913-28DRVT; Eco-Plan: Green (RoHS & no Sb/Br); Fixed Output Options(V): 1.3, 2.8; Iout2(A): 0.2; Vout2(Max)(V): 3.6; Vout2(Min)(V): 0.9; Mounting Technology: Surface Mount; ComponentLink1Description: Manufacturer URL; ComponentLink1URL: http://www.ti.com/; ComponentLink2Description: Datasheet; ComponentLink2URL: http://www.ti.com/general/docs/lit/getliterature.tsp?genericPartNumber=TPS71913-28&fileType=pdf; ComponentLink3Description: Package Specification; ComponentLink3URL: http://www.ti.com/litv/pdf/mpds216d
footprint TI-DRV6-1600X1000TP_V (SON, 6-Leads, Body 2x2mm, Pitch 0.65mm, Thermal Pad 1X1.6mm)
pins: 1 OUT1 (power) "Output of Regulator 1. A small ceramic capacitor (typically >= 1uF) is needed from this pin to ground to assure stability.", 2 IN (power) "Input supply to both regulators.", 3 OUT2 (power) "Output of Regulator 2. A small ceramic capacitor (typically >= 1uF) is needed from this pin to ground to assure stability.", 4 EN2 (in) "Enable pin for Regulator 2. Driving the Enable pin (EN2) high turns on Regulator 2. Driving this pin low puts Regulator 2 into shutdown mode, reducing operating current.", 5 GND (power) "Ground.", 6 EN1 (in) "Enable pin for Regulator 1. Driving the Enable pin (EN1) high turns on Regulator 1. Driving this pin low puts Regulator 1 into shutdown mode, reducing operating current.", 7 GND (power) "DRV thermal pad should also be connected to ground."

## TPS71913-28DRVTG4
designator U?
Dual Output High PSRR LDO, 200 mA, Fixed 1.3, 2.8 V Output, 2.7 to 6.5 V Input, 6-pin SON (DRV), -40 to 125 degC, Green (RoHS & no Sb/Br); Manufacturer: Texas Instruments; PartNumber: TPS71913-28DRVTG4; Iout(Max)(A): 0.2; Iq(Typ)(mA): 0.09; SubFamily: Dual Channel LDO; Vdo(Typ)(mV): 230; Vin(Max)(V): 6.5; Vin(Min)(V): 2.7; Vout(Max)(V): 3.6; Vout(Min)(V): 0.9; DatasheetVersion: SBVS088C; PackageVersion: 4206925/E; PackageReference: DRV6-1600X1000TP; PackageDescription: 6-Pin Plastic Small Outline No-Lead, Body 2 x 2 mm, Pitch 0.65 mm; Supplier 1: Digi-Key; Supplier Part Number 1: TPS71913-28DRVTG4-ND; Supplier 2: Newark; Supplier Part Number 2: 52M6160; Supplier 3: Mouser; Supplier Part Number 3: 595-TPS7191328DRVTG4; Eco-Plan: Green (RoHS & no Sb/Br); Fixed Output Options(V): 1.3, 2.8; Iout2(A): 0.2; Vout2(Max)(V): 3.6; Vout2(Min)(V): 0.9; Mounting Technology: Surface Mount; ComponentLink1Description: Manufacturer URL; ComponentLink1URL: http://www.ti.com/; ComponentLink2Description: Datasheet; ComponentLink2URL: http://www.ti.com/general/docs/lit/getliterature.tsp?genericPartNumber=TPS71913-28&fileType=pdf; ComponentLink3Description: Package Specification; ComponentLink3URL: http://www.ti.com/litv/pdf/mpds216d
footprint TI-DRV6-1600X1000TP_V (SON, 6-Leads, Body 2x2mm, Pitch 0.65mm, Thermal Pad 1X1.6mm)
pins: 1 OUT1 (power) "Output of Regulator 1. A small ceramic capacitor (typically >= 1uF) is needed from this pin to ground to assure stability.", 2 IN (power) "Input supply to both regulators.", 3 OUT2 (power) "Output of Regulator 2. A small ceramic capacitor (typically >= 1uF) is needed from this pin to ground to assure stability.", 4 EN2 (in) "Enable pin for Regulator 2. Driving the Enable pin (EN2) high turns on Regulator 2. Driving this pin low puts Regulator 2 into shutdown mode, reducing operating current.", 5 GND (power) "Ground.", 6 EN1 (in) "Enable pin for Regulator 1. Driving the Enable pin (EN1) high turns on Regulator 1. Driving this pin low puts Regulator 1 into shutdown mode, reducing operating current.", 7 GND (power) "DRV thermal pad should also be connected to ground."